# Altium footprint library CAP_DE2E3SA332MA3BY02F.PcbLib: 1 footprints
Each footprint in its own frame and in the unit in brackets; x right, y up, seen from the top. Pads: shape width x height; smd on the part's side, far side on the other; paste and mask are expansions set on the pad; w line width, h text height; cw(c..) or ccw(c..) is an arc to the next point about the centre after c.
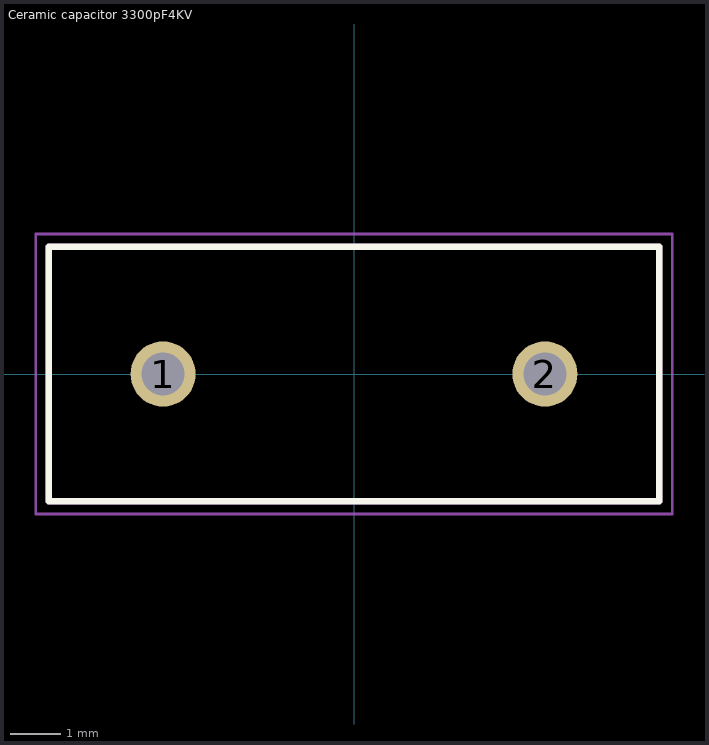
[diagram p0: the footprint, top view; thin cyan lines are the x and y axes]

## Ceramic capacitor 3300pF4KV [mm] "Ceramic capacitor 3300pF4KV, Tension nominale 400Vac(r.m.s.), 4KV ESD, DE2E3SA332MA3BY02F"
pads (2):
  round 1.28 hole 0.85: 1(-3.75,0) 2(3.75,0)
Top Overlay:
  lines w0.127: -6,-2.5 6,-2.5 6,2.5 -6,2.5 -6,-2.5
Mechanical 13:
  lines w0.127: -6,-2.5 6,-2.5 6,2.5 -6,2.5 -6,-2.5
Mechanical 15:
  lines w0.05: -6.25,-2.75 6.25,-2.75 6.25,2.75 -6.25,2.75 -6.25,-2.75
3D body "step_temp.STEP": height 15, standoff -25, extent -6,-2.5 6,2.5